# EAGLE library part GY-511 (library FansElectronics-Modul)
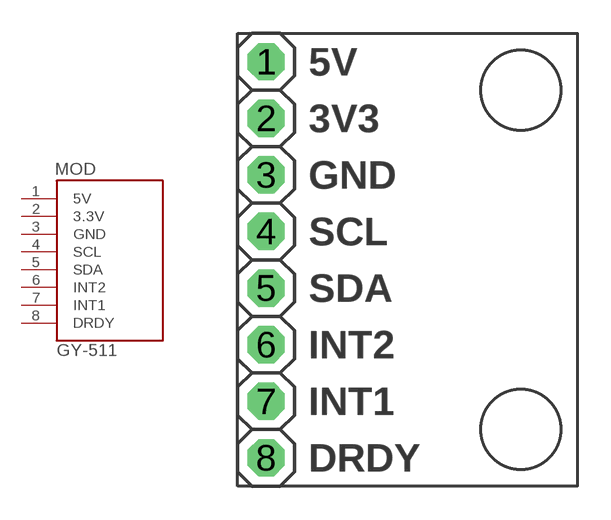
[diagram p28: symbol with the pads of GY-511; footprint GY-511]

Designator prefix MOD

## GY-511  [GY-511]
1  5V  pwr
2  3.3V  pwr
3  GND  pwr
4  SCL
5  SDA
6  INT2
7  INT1
8  DRDY

## Footprint GY-511 (pad centres in mm)
drill 1.016 pad 1.676 octagon: 1 -6.35,8.89; 2 -6.35,6.35; 3 -6.35,3.81; 4 -6.35,1.27; 5 -6.35,-1.27; 6 -6.35,-3.81; 7 -6.35,-6.35; 8 -6.35,-8.89